# EAGLE library part AD5242 (library CalvEngIO-DigitalIC)
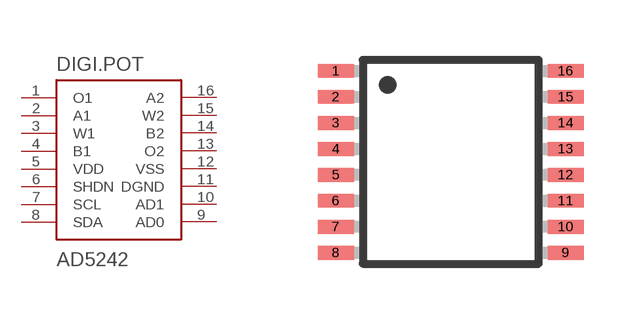
[diagram p4: symbol with the pads of TSSOP16; footprint TSSOP16]

Designator prefix DIGI.POT

## AD5242  [TSSOP16]
1  O1
2  A1
3  W1
4  B1
5  VDD
6  SHDN
7  SCL
8  SDA
9  AD0
10  AD1
11  DGND
12  VSS
13  O2
14  B2
15  W2
16  A2

## Footprint TSSOP16 (pad centres in mm)
16-Lead Thin Shrink Small Outline Package [TSSOP] (RU-16) Source: 8x ADG1408_1409.pdf
smd 0.9 x 0.35: 1 -2.875,2.275; 2 -2.875,1.625; 3 -2.875,0.975; 4 -2.875,0.325; 5 -2.875,-0.325; 6 -2.875,-0.975; 7 -2.875,-1.625; 8 -2.875,-2.275; 9 2.875,-2.275; 10 2.875,-1.625; 11 2.875,-0.975; 12 2.875,-0.325; 13 2.875,0.325; 14 2.875,0.975; 15 2.875,1.625; 16 2.875,2.275